# Altium schematic symbol library TSW-104-07-S-S.SchLib: 1 symbol
Pins are listed as number, name and electrical type; pins without a type are passive.

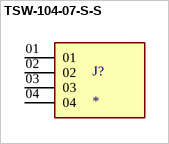
[diagram p0: symbol TSW-104-07-S-S]

## TSW-104-07-S-S
designator J?
MF: Samtec Inc.; MP: TSW-104-07-S-S; Package: None; Value: *; Availability: Unavailable; Price: None
footprint SAMTEC_TSW-104-07-S-S
pins: 01, 02, 03, 04